# EAGLE library part USB3300 (library walkgeek-eagle)
USB3300 edit this description Auto generated by make-symbol-device-package-bsdl.ulp Rev. 43 Source: USB3300.txt
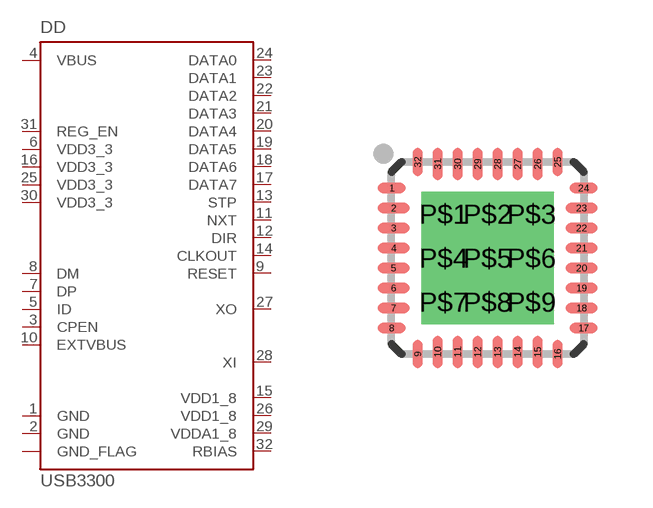
[diagram p4: symbol with the pads of QFN32; footprint QFN32]

Designator prefix DD

## USB3300  [QFN32]
1  GND  pwr
2  GND  pwr
3  CPEN  out
4  VBUS
5  ID  in
6  VDD3_3  pwr
7  DP
8  DM
9  RESET  in
10  EXTVBUS  in
11  NXT  out
12  DIR  out
13  STP  in
14  CLKOUT  out
15  VDD1_8  out
16  VDD3_3  pwr
17  DATA7
18  DATA6
19  DATA5
20  DATA4
21  DATA3
22  DATA2
23  DATA1
24  DATA0
25  VDD3_3  pwr
26  VDD1_8  out
27  XO  out
28  XI  in
29  VDDA1_8  out
30  VDD3_3  pwr
31  REG_EN
32  RBIAS  in
P$1  GND_FLAG  pwr
P$2  GND_FLAG  pwr
P$3  GND_FLAG  pwr
P$4  GND_FLAG  pwr
P$5  GND_FLAG  pwr
P$6  GND_FLAG  pwr
P$7  GND_FLAG  pwr
P$8  GND_FLAG  pwr
P$9  GND_FLAG  pwr

## Footprint QFN32 (pad centres in mm)
32-Pin (5x5 mm) QFN Source: http://www.cypress.com .. 38-12025_0P_V.pdf
smd 0.7 x 0.25: 1 -2.4,1.75; 8 -2.4,-1.75; 17 2.4,-1.75; 24 2.4,1.75
smd 0.8 x 0.25: 2 -2.35,1.25; 3 -2.35,0.75; 4 -2.35,0.25; 5 -2.35,-0.25; 6 -2.35,-0.75; 7 -2.35,-1.25; 18 2.35,-1.25; 19 2.35,-0.75; 20 2.35,-0.25; 21 2.35,0.25; 22 2.35,0.75; 23 2.35,1.25
smd 0.25 x 0.7: 9 -1.75,-2.4; 16 1.75,-2.4; 25 1.75,2.4; 32 -1.75,2.4
smd 0.25 x 0.8: 10 -1.25,-2.35; 11 -0.75,-2.35; 12 -0.25,-2.35; 13 0.25,-2.35; 14 0.75,-2.35; 15 1.25,-2.35; 26 1.25,2.35; 27 0.75,2.35; 28 0.25,2.35; 29 -0.25,2.35; 30 -0.75,2.35; 31 -1.25,2.35
drill 0.4 pad 1.1 square: P$1 -1.1,1.1; P$2 0,1.1; P$3 1.1,1.1; P$4 -1.1,0; P$5 0,0; P$6 1.1,0; P$7 -1.1,-1.1; P$8 0,-1.1; P$9 1.1,-1.1